# Altium footprint library Componentes Deived Projetos PCB.PcbLib: 87 footprints (part 4 of 6)
Each footprint in its own frame and in the unit in brackets; x right, y up, seen from the top. Pads: shape width x height; smd on the part's side, far side on the other; paste and mask are expansions set on the pad; w line width, h text height; cw(c..) or ccw(c..) is an arc to the next point about the centre after c.
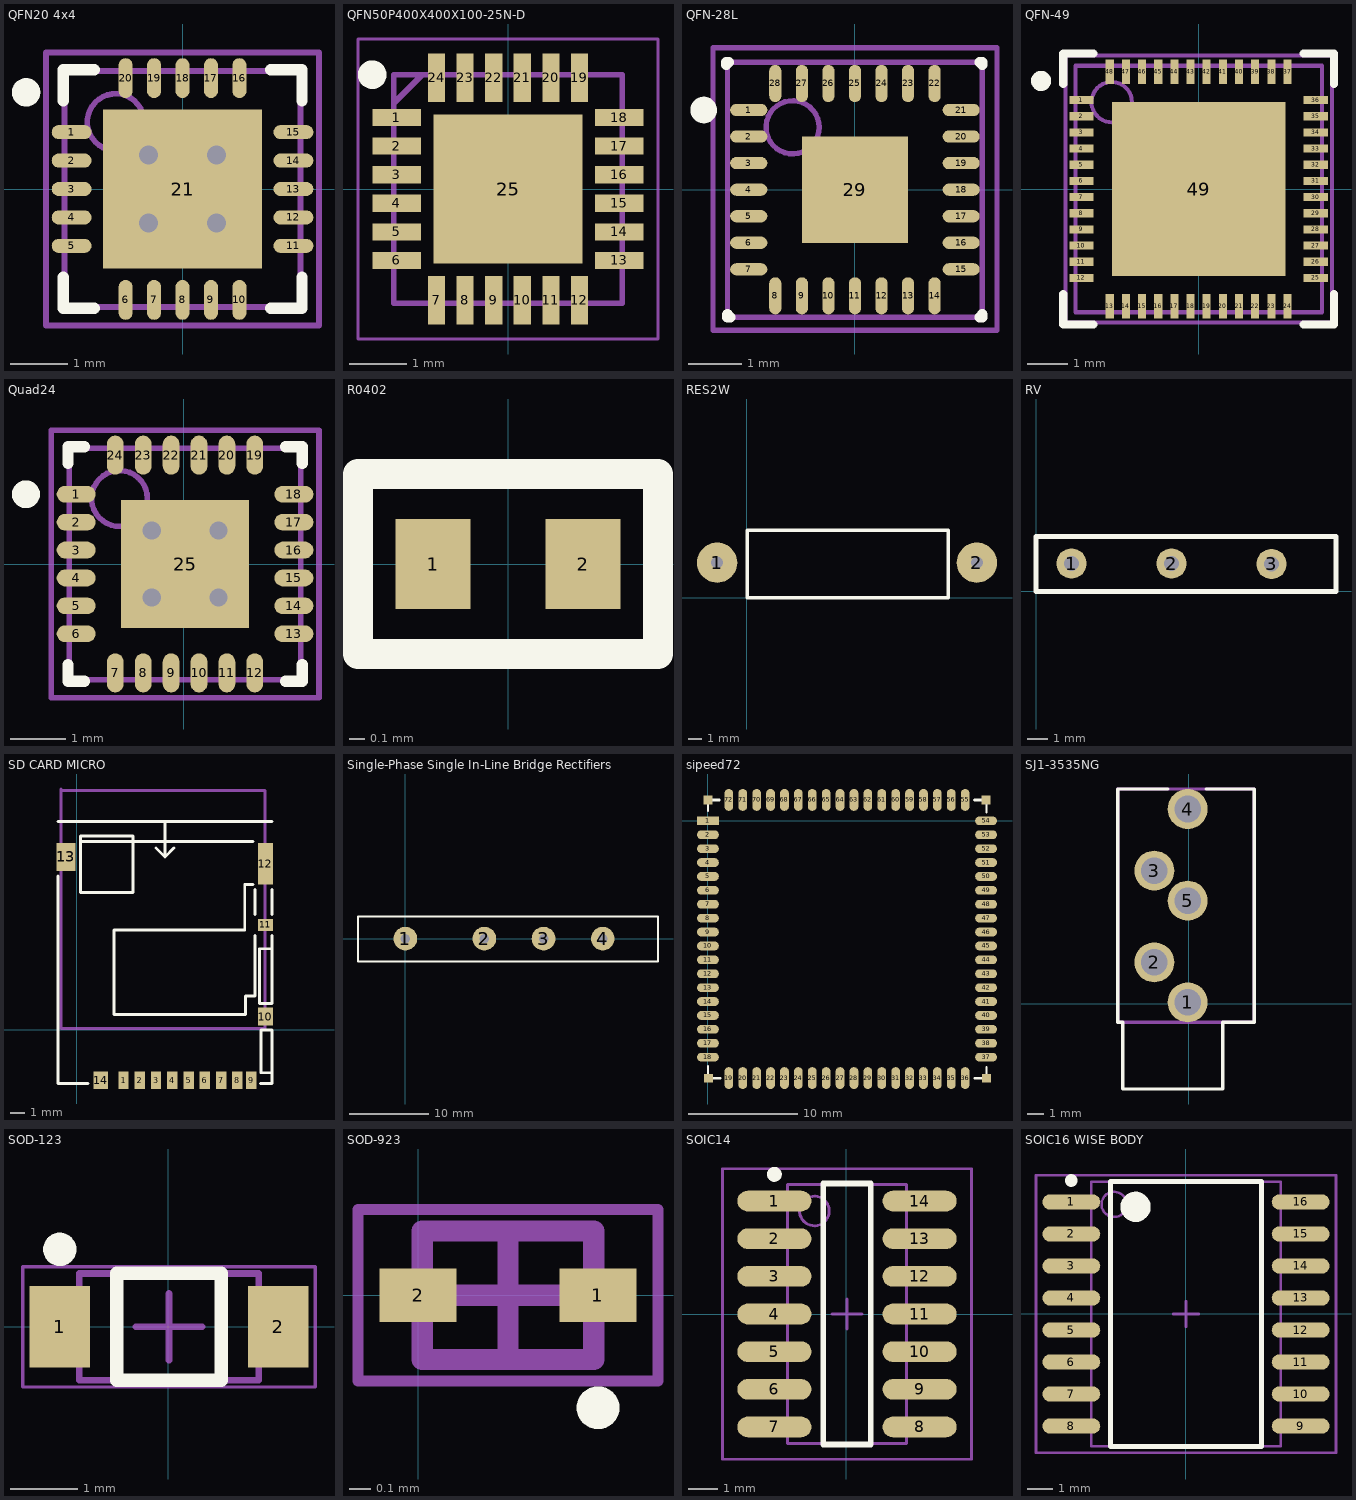
[diagram p3: the footprints below, top view; thin cyan lines are the x and y axes]

## QFN20 4x4 [mm]
pads (21):
  oval 0.7x0.25 smd: 1(-1.95,1) 2(-1.95,0.5) 3(-1.95,0) 4(-1.95,-0.5) 5(-1.95,-1) 11(1.95,-1) 12(1.95,-0.5) 13(1.95,0) 14(1.95,0.5) 15(1.95,1)
  oval 0.25x0.7 smd: 6(-1,-1.95) 7(-0.5,-1.95) 8(0,-1.95) 9(0.5,-1.95) 10(1,-1.95) 16(1,1.95) 17(0.5,1.95) 18(0,1.95) 19(-0.5,1.95) 20(-1,1.95)
  rect 2.8x2.8 smd: 21(0,0)
via 0.6,-0.6 diameter 0.66 hole 0.33
via -0.6,-0.6 diameter 0.66 hole 0.33
via 0.6,0.6 diameter 0.66 hole 0.33
via -0.6,0.6 diameter 0.66 hole 0.33
Top Overlay:
  circle w0.25: c-2.75,1.7 r0.125
  lines w0.2: -2.1,-1.55 -2.1,-2.1 -1.55,-2.1 ; -2.1,1.55 -2.1,2.1 -1.55,2.1 ; 1.55,-2.1 2.1,-2.1 2.1,-1.55 ; 1.55,2.1 2.1,2.1 2.1,1.55
Mechanical 13:
  circle w0.1: c-1.175,1.175 r0.5
  lines w0.1: -2.075,-2.075 2.075,-2.075 2.075,2.075 -2.075,2.075 -2.075,-2.075
Mechanical 15:
  lines w0.1: -0.5,0 0.5,0 ; 0,-0.5 0,0.5 ; -2.4,-2.4 2.4,-2.4 2.4,2.4 -2.4,2.4 -2.4,-2.4
3D body: height 1, standoff 0, extent -2.075,-2.075 2.075,2.075

## QFN50P400X400X100-25N-D [mm]
pads (25):
  rect 0.85x0.3 smd: 1(-1.95,1.25) 2(-1.95,0.75) 3(-1.95,0.25) 4(-1.95,-0.25) 5(-1.95,-0.75) 6(-1.95,-1.25) 13(1.95,-1.25) 14(1.95,-0.75) 15(1.95,-0.25) 16(1.95,0.25) 17(1.95,0.75) 18(1.95,1.25)
  rect 0.3x0.85 smd: 7(-1.25,-1.95) 8(-0.75,-1.95) 9(-0.25,-1.95) 10(0.25,-1.95) 11(0.75,-1.95) 12(1.25,-1.95) 19(1.25,1.95) 20(0.75,1.95) 21(0.25,1.95) 22(-0.25,1.95) 23(-0.75,1.95) 24(-1.25,1.95)
  rect 2.6x2.6 smd: 25(0,0)
Top Overlay:
  circle w0.25: c-2.375,2 r0.125
Mechanical 13:
  lines w0.1: -2,1.5 -1.5,2 ; -2,-2 2,-2 2,2 -2,2 -2,-2
Mechanical 15:
  lines w0.05: -2.625,-2.625 2.625,-2.625 2.625,2.625 -2.625,2.625 -2.625,-2.625
3D body "LAN8742A-CZ.stp": height 1, standoff 0, extent -2.05,-2.05 2.05,2.05

## QFN-28L [mm]
pads (29):
  oval 0.7x0.23 smd: 1(-2,1.5) 2(-2,1) 3(-2,0.5) 4(-2,0) 5(-2,-0.5) 6(-2,-1) 7(-2,-1.5) 15(2,-1.5) 16(2,-1) 17(2,-0.5) 18(2,0) 19(2,0.5) 20(2,1) 21(2,1.5)
  oval 0.23x0.7 smd: 8(-1.5,-2) 9(-1,-2) 10(-0.5,-2) 11(0,-2) 12(0.5,-2) 13(1,-2) 14(1.5,-2) 22(1.5,2) 23(1,2) 24(0.5,2) 25(0,2) 26(-0.5,2) 27(-1,2) 28(-1.5,2)
  rect 2x2 smd: 29(0,0)
Top Overlay:
  circle w0.25: c-2.85,1.5 r0.125
  lines w0.2: -2.425,2.35 -2.425,2.4 -2.375,2.4 ; -2.4,-2.35 -2.4,-2.4 -2.35,-2.4 ; 2.35,-2.4 2.4,-2.4 2.4,-2.35 ; 2.35,2.4 2.4,2.4 2.4,2.35
Mechanical 13:
  circle w0.1: c-1.175,1.175 r0.5
  lines w0.1: -2.4,-2.4 -2.4,2.4 2.4,2.4 2.4,-2.4 -2.4,-2.4
Mechanical 15:
  lines w0.1: -0.5,0 0.5,0 ; 0,-0.5 0,0.5 ; -2.675,-2.65 -2.675,2.675 2.675,2.675 2.675,-2.65 -2.675,-2.65
3D body: height 0.8, standoff 0, extent -2.4,-2.4 2.4,2.4

## QFN-49 [mm]
pads (49):
  rect 0.6x0.2 smd paste-0.125 mask+0.051: 1(-2.9,2.2) 2(-2.9,1.8) 3(-2.9,1.4) 4(-2.9,1) 5(-2.9,0.6) 6(-2.9,0.2) 7(-2.9,-0.2) 8(-2.9,-0.6) 9(-2.9,-1) 10(-2.9,-1.4) 11(-2.9,-1.8) 12(-2.9,-2.2) 25(2.9,-2.2) 26(2.9,-1.8) 27(2.9,-1.4) 28(2.9,-1) 29(2.9,-0.6) 30(2.9,-0.2) 31(2.9,0.2) 32(2.9,0.6) 33(2.9,1) 34(2.9,1.4) 35(2.9,1.8) 36(2.9,2.2)
  rect 0.2x0.6 smd paste-0.125 mask+0.051: 13(-2.2,-2.9) 14(-1.8,-2.9) 15(-1.4,-2.9) 16(-1,-2.9) 17(-0.6,-2.9) 18(-0.2,-2.9) 19(0.2,-2.9) 20(0.6,-2.9) 21(1,-2.9) 22(1.4,-2.9) 23(1.8,-2.9) 24(2.2,-2.9) 37(2.2,2.9) 38(1.8,2.9) 39(1.4,2.9) 40(1,2.9) 41(0.6,2.9) 42(0.2,2.9) 43(-0.2,2.9) 44(-0.6,2.9) 45(-1,2.9) 46(-1.4,2.9) 47(-1.8,2.9) 48(-2.2,2.9)
  rect 4.3x4.3 smd paste-2.3 mask+0.051: 49(0,0)
Top Overlay:
  circle w0.25: c-3.9,2.675 r0.125
  lines w0.2: -3.35,-2.6 -3.35,-3.35 -2.6,-3.35 ; -3.35,2.6 -3.35,3.35 -2.6,3.35 ; 2.6,-3.35 3.35,-3.35 3.35,-2.6 ; 2.6,3.35 3.35,3.35 3.35,2.6
Top Paste:
  rectangle: -3.4,2.1 -2.7,2.3
  rectangle: -3.4,1.7 -2.7,1.9
  rectangle: -3.4,1.3 -2.7,1.5
  rectangle: -3.4,0.9 -2.7,1.1
  rectangle: -3.4,0.5 -2.7,0.7
  rectangle: -3.4,0.1 -2.7,0.3
  rectangle: -3.4,-2.3 -2.7,-2.1
  rectangle: -3.4,-1.9 -2.7,-1.7
  rectangle: -3.4,-1.5 -2.7,-1.3
  rectangle: -3.4,-1.1 -2.7,-0.9
  rectangle: -3.4,-0.7 -2.7,-0.5
  rectangle: -3.4,-0.3 -2.7,-0.1
  region: 0.3,-3.4 0.3,-2.7 0.1,-2.7 0.1,-3.4
  region: 0.7,-3.4 0.7,-2.7 0.5,-2.7 0.5,-3.4
  region: 1.1,-3.4 1.1,-2.7 0.9,-2.7 0.9,-3.4
  region: 1.5,-3.4 1.5,-2.7 1.3,-2.7 1.3,-3.4
  region: 1.9,-3.4 1.9,-2.7 1.7,-2.7 1.7,-3.4
  region: 2.3,-3.4 2.3,-2.7 2.1,-2.7 2.1,-3.4
  region: -0.1,-3.4 -0.1,-2.7 -0.3,-2.7 -0.3,-3.4
  region: -0.5,-3.4 -0.5,-2.7 -0.7,-2.7 -0.7,-3.4
  region: -0.9,-3.4 -0.9,-2.7 -1.1,-2.7 -1.1,-3.4
  region: -1.3,-3.4 -1.3,-2.7 -1.5,-2.7 -1.5,-3.4
  region: -1.7,-3.4 -1.7,-2.7 -1.9,-2.7 -1.9,-3.4
  region: -2.1,-3.4 -2.1,-2.7 -2.3,-2.7 -2.3,-3.4
  region: 3.4,0.3 2.7,0.3 2.7,0.1 3.4,0.1
  region: 3.4,0.7 2.7,0.7 2.7,0.5 3.4,0.5
  region: 3.4,1.1 2.7,1.1 2.7,0.9 3.4,0.9
  region: 3.4,1.5 2.7,1.5 2.7,1.3 3.4,1.3
  region: 3.4,1.9 2.7,1.9 2.7,1.7 3.4,1.7
  region: 3.4,2.3 2.7,2.3 2.7,2.1 3.4,2.1
  region: 3.4,-0.1 2.7,-0.1 2.7,-0.3 3.4,-0.3
  region: 3.4,-0.5 2.7,-0.5 2.7,-0.7 3.4,-0.7
  region: 3.4,-0.9 2.7,-0.9 2.7,-1.1 3.4,-1.1
  region: 3.4,-1.3 2.7,-1.3 2.7,-1.5 3.4,-1.5
  region: 3.4,-1.7 2.7,-1.7 2.7,-1.9 3.4,-1.9
  region: 3.4,-2.1 2.7,-2.1 2.7,-2.3 3.4,-2.3
  region: -0.3,3.4 -0.3,2.7 -0.1,2.7 -0.1,3.4
  region: -0.7,3.4 -0.7,2.7 -0.5,2.7 -0.5,3.4
  region: -1.1,3.4 -1.1,2.7 -0.9,2.7 -0.9,3.4
  region: -1.5,3.4 -1.5,2.7 -1.3,2.7 -1.3,3.4
  region: -1.9,3.4 -1.9,2.7 -1.7,2.7 -1.7,3.4
  region: -2.3,3.4 -2.3,2.7 -2.1,2.7 -2.1,3.4
  region: 0.1,3.4 0.1,2.7 0.3,2.7 0.3,3.4
  region: 0.5,3.4 0.5,2.7 0.7,2.7 0.7,3.4
  region: 0.9,3.4 0.9,2.7 1.1,2.7 1.1,3.4
  region: 1.3,3.4 1.3,2.7 1.5,2.7 1.5,3.4
  region: 1.7,3.4 1.7,2.7 1.9,2.7 1.9,3.4
  region: 2.1,3.4 2.1,2.7 2.3,2.7 2.3,3.4
  rectangle: 0.1,-1.1 1.1,-0.1
  rectangle: 1.3,-2.3 2.3,-1.3
  rectangle: 1.3,-1.1 2.3,-0.1
  rectangle: 0.1,-2.3 1.1,-1.3
  region: -0.1,-0.1 -1.1,-0.1 -1.1,-1.1 -0.1,-1.1
  region: -1.3,-1.3 -2.3,-1.3 -2.3,-2.3 -1.3,-2.3
  region: -1.3,-0.1 -2.3,-0.1 -2.3,-1.1 -1.3,-1.1
  region: -0.1,-1.3 -1.1,-1.3 -1.1,-2.3 -0.1,-2.3
  region: -0.1,1.1 -1.1,1.1 -1.1,0.1 -0.1,0.1
  region: -1.3,2.3 -2.3,2.3 -2.3,1.3 -1.3,1.3
  region: -1.3,1.1 -2.3,1.1 -2.3,0.1 -1.3,0.1
  region: -0.1,2.3 -1.1,2.3 -1.1,1.3 -0.1,1.3
  rectangle: 0.1,1.3 1.1,2.3
  rectangle: 1.3,0.1 2.3,1.1
  rectangle: 1.3,1.3 2.3,2.3
  rectangle: 0.1,0.1 1.1,1.1
Mechanical 13:
  circle w0.1: c-2.15,2.15 r0.5
  lines w0.1: -3.05,-3.05 3.05,-3.05 3.05,3.05 -3.05,3.05 -3.05,-3.05
Mechanical 15:
  lines w0.1: -0.5,0 0.5,0 ; 0,-0.5 0,0.5 ; -3.3,-3.3 3.3,-3.3 3.3,3.3 -3.3,3.3 -3.3,-3.3
3D body: height 0.8, standoff 0, extent -3.049,-3.049 3.049,3.049

## Quad24 [mm]
pads (25):
  oval 0.7x0.3 smd: 1(-1.925,1.25) 2(-1.925,0.75) 3(-1.925,0.25) 4(-1.925,-0.25) 5(-1.925,-0.75) 6(-1.925,-1.25) 13(1.975,-1.25) 14(1.975,-0.75) 15(1.975,-0.25) 16(1.975,0.25) 17(1.975,0.75) 18(1.975,1.25)
  oval 0.3x0.7 smd: 7(-1.225,-1.95) 8(-0.725,-1.95) 9(-0.225,-1.95) 10(0.275,-1.95) 11(0.775,-1.95) 12(1.275,-1.95) 19(1.275,1.95) 20(0.775,1.95) 21(0.275,1.95) 22(-0.225,1.95) 23(-0.725,1.95) 24(-1.225,1.95)
  rect 2.3x2.3 smd: 25(0.025,0)
via 0.625,-0.6 diameter 0.66 hole 0.33
via -0.575,-0.6 diameter 0.66 hole 0.33
via 0.625,0.6 diameter 0.66 hole 0.33
via -0.575,0.6 diameter 0.66 hole 0.33
Top Overlay:
  circle w0.25: c-2.825,1.25 r0.125
  lines w0.2: -2.075,-1.8 -2.075,-2.1 -1.775,-2.1 ; -2.075,1.8 -2.075,2.1 -1.775,2.1 ; 1.825,-2.1 2.125,-2.1 2.125,-1.8 ; 1.825,2.1 2.125,2.1 2.125,1.8
Mechanical 13:
  circle w0.1: c-1.15,1.175 r0.5
  lines w0.1: -2.05,-2.075 2.1,-2.075 2.1,2.075 -2.05,2.075 -2.05,-2.075
Mechanical 15:
  lines w0.1: -0.475,0 0.525,0 ; 0.025,-0.5 0.025,0.5 ; -2.375,-2.4 2.425,-2.4 2.425,2.4 -2.375,2.4 -2.375,-2.4
3D body: height 1, standoff 0, extent -2.05,-2.075 2.1,2.075

## R0402 [mm]
pads (2):
  rect 0.5x0.6 smd: 1(-0.5,0) 2(0.5,0)
Top Overlay:
  lines w0.2: -1,-0.6 -1,0.6 1,0.6 1,-0.6 -1,-0.6
Mechanical 29:
  lines w0.15: -1,-0.6 1,-0.6 1,0.6 -1,0.6 -1,-0.6
  text ".Designator" at 0.5,0.2 h0.4
3D body "R0402.step": height 0.4, standoff 0, extent -0.5,-0.25 0.5,0.25

## RES2W [mm]
pads (2):
  round 3 hole 0.9: 1(-2.225,2.6) 2(17.125,2.6)
Top Overlay:
  lines w0.254: 0.025,0 0.025,5 15,5 15,0 0.025,0

## RV [mil]
pads (3):
  round 60 hole 30: 1(69.88,55.12) 2(266.73,55.12) 3(463.58,54.13)
Top Overlay:
  lines w10: 0,0 590.55,0 590.55,108.27 0,108.27 0,0

## SD CARD MICRO [mm]
pads (14):
  rect 0.7x1.2 smd: 1(3.175,-3.4) 2(4.275,-3.4) 3(5.375,-3.4) 4(6.475,-3.4) 5(7.575,-3.4) 6(8.675,-3.4) 7(9.775,-3.4)
  rect 0.7x1.2 smd mask+0.07: 8(10.875,-3.4) 9(11.825,-3.4)
  rect 1x1.2 smd: 10(12.775,0.9) 14(1.625,-3.4)
  rect 1x0.8 smd: 11(12.775,7.1)
  rect 1x2.8 smd: 12(12.775,11.25)
  rect 1.3x1.9 smd: 13(-0.725,11.7)
Top Overlay:
  lines w0.2: -1.27,10.4 -1.27,-3.631 0.762,-3.631 ; -1.27,14.095 13.208,14.095 ; 0.254,12.752 11.938,12.752 ; 5.375,12.3 5.975,11.7 ; 5.975,14.05 5.975,11.7 ; 6.575,12.3 5.975,11.7 ; 11.93,9.845 11.375,9.845 11.375,6.76 2.54,6.76 2.54,1.045 11.43,1.045 11.43,2.3 12.075,2.3 12.075,6.4 ; 12.075,7.8 12.075,9.5 ; 12.446,-3.631 13.208,-3.631 13.208,0 ; 13.179,0 12.475,0 12.475,-2.9 13.208,-2.9 ; 13.208,5.49 12.385,5.49 12.375,5.49 12.375,1.8 13.208,1.8 13.208,6.4 ; 13.208,7.8 13.208,9.5 ; 0.254,9.3 3.81,9.3 3.81,13.11 0.254,13.11 0.254,9.3
Mechanical 30:
  lines w0.2: -1.05,0.1 12.75,0.1 12.75,16.2 -0.95,16.2 -1.05,16.3 -1.05,0.1
  text ".Designator" at 3.85,8.7 h1.52
3D body "DM3AT-SF-PEJM5.stp": height 1.68, standoff 0, extent -1.05,-3.45 12.8,12.7

## Single-Phase Single In-Line Bridge Rectifiers [mm]
pads (4):
  round 3 hole 1.2: 1(0,0) 2(10,0) 3(17.5,0) 4(25,0)
Top Overlay:
  lines w0.254: -6,-2.9 32,-2.9 32,2.8 -6,2.8 -6,-2.9

## sipeed72 [mm]
pads (76):
  rect 2x0.8 smd: 1(0,0)
  oval 2x0.8 smd: 2(0,-1.27) 3(0,-2.54) 4(0,-3.81) 5(0,-5.08) 6(0,-6.35) 7(0,-7.62) 8(0,-8.89) 9(0,-10.16) 10(0,-11.43) 11(0,-12.7) 12(0,-13.97) 13(0,-15.24) 14(0,-16.51) 15(0,-17.78) 16(0,-19.05) 17(0,-20.32) 18(0,-21.59) 37(25.41,-21.59) 38(25.41,-20.32) 39(25.41,-19.05) 40(25.41,-17.78) 41(25.41,-16.51) 42(25.41,-15.24) 43(25.41,-13.97) 44(25.41,-12.7) 45(25.41,-11.43) 46(25.41,-10.16) 47(25.41,-8.89) 48(25.41,-7.62) 49(25.41,-6.35) 50(25.41,-5.08) 51(25.41,-3.81) 52(25.41,-2.54) 53(25.41,-1.27) 54(25.41,0)
  oval 0.8x2 smd: 19(1.91,-23.5) 20(3.18,-23.5) 21(4.45,-23.5) 22(5.72,-23.5) 23(6.99,-23.5) 24(8.26,-23.5) 25(9.53,-23.5) 26(10.8,-23.5) 27(12.07,-23.5) 28(13.34,-23.5) 29(14.61,-23.5) 30(15.88,-23.5) 31(17.15,-23.5) 32(18.42,-23.5) 33(19.69,-23.5) 34(20.96,-23.5) 35(22.23,-23.5) 36(23.5,-23.5) 55(23.5,1.91) 56(22.23,1.91) 57(20.96,1.91) 58(19.69,1.91) 59(18.42,1.91) 60(17.15,1.91) 61(15.88,1.91) 62(14.61,1.91) 63(13.34,1.91) 64(12.07,1.91) 65(10.8,1.91) 66(9.53,1.91) 67(8.26,1.91) 68(6.99,1.91) 69(5.72,1.91) 70(4.45,1.91) 71(3.18,1.91) 72(1.91,1.91)
  rect 0.8x0.8 smd: 73(0.05,-23.525) 74(25.45,-23.525) 75(25.4,1.91) 76(0,1.91)
Top Overlay:
  lines w0.2: 0,-23.525 0,-22.39 ; 0,0.9 0,1.91 ; 25.45,-23.525 25.45,-22.515 ; 25.45,0.775 25.45,1.91
  lines w0.254: 0,1.91 1.04,1.91 ; 0.05,-23.525 1.1,-23.525 ; 24.35,1.91 25.4,1.91 ; 24.41,-23.525 25.45,-23.525

## SJ1-3535NG [mm]
pads (5):
  round 2.4 hole 1.6: 1(-0.075,0.1) 2(-2.075,2.5) 3(-2.075,8) 4(-0.075,11.7) 5(-0.075,6.2)
Top Overlay:
  lines w0.2: -1.275,12.9 -4.275,12.9 -4.275,-1.1 -3.975,-1.1 -3.975,-5.1 2.025,-5.1 2.025,-1.1 3.925,-1.1 3.925,12.9 1.025,12.9
Top Solder:
  region: -1.725,8.75 0.575,6.45 -0.425,5.45 -2.725,7.75
Mechanical 1:
  lines w0.2: -4.275,12.9 -4.275,12.9
Mechanical 29:
  lines w0.2: -4.275,-1.1 3.925,-1.1 3.925,12.9 -4.275,12.9 -4.275,-1.1
  text ".Designator" at -2.075,5.6 h1.2
3D body "SJ1-3535NG-PI.step": height 12.3, standoff -3.3, extent -4.275,-5.15 3.925,12.9

## SOD-123 [mm]
pads (2):
  rect 0.91x1.22 smd: 1(-1.625,0) 2(1.645,0)
Top Overlay:
  circle w0.25: c-1.625,1.16 r0.125
  lines w0.2: -0.77,-0.8 0.79,-0.8 0.79,0.8 -0.77,0.8 -0.77,-0.8
Mechanical 13:
  lines w0.1: -1.335,-0.8 1.355,-0.8 1.355,0.8 -1.335,0.8 -1.335,-0.8
Mechanical 15:
  lines w0.05: -2.18,-0.9 2.2,-0.9 2.2,0.9 -2.18,0.9 -2.18,-0.9
  lines w0.1: -0.49,0 0.51,0 ; 0.01,-0.5 0.01,0.5
3D body: height 1.35, standoff 0, extent -1.335,-0.8 1.355,0.8

## SOD-923 [mm]
pads (2):
  rect 0.36x0.25 smd: 1(0.84,0) 2(0,0)
Top Overlay:
  circle w0.1: c0.84,-0.525 r0.05
Mechanical 13:
  lines w0.1: 0.02,-0.3 0.02,0.3 0.82,0.3 0.82,-0.3 0.02,-0.3
Mechanical 15:
  lines w0.05: -0.28,-0.4 -0.28,0.4 1.12,0.4 1.12,-0.4 -0.28,-0.4
  lines w0.1: 0.17,0 0.67,0 ; 0.42,-0.25 0.42,0.25
3D body: height 0.43, standoff 0, extent 0.02,-0.3 0.82,0.3

## SOIC14 [mm]
pads (14):
  oval 2.5x0.7 smd: 1(-2.425,3.81) 2(-2.425,2.54) 3(-2.425,1.27) 4(-2.425,0) 5(-2.425,-1.27) 6(-2.425,-2.54) 7(-2.425,-3.81) 8(2.475,-3.81) 9(2.475,-2.54) 10(2.475,-1.27) 11(2.475,0) 12(2.475,1.27) 13(2.475,2.54) 14(2.475,3.81)
Top Overlay:
  circle w0.25: c-2.425,4.71 r0.125
  lines w0.2: -0.775,-4.4 0.825,-4.4 0.825,4.4 -0.775,4.4 -0.775,-4.4
Mechanical 13:
  circle w0.1: c-1.075,3.475 r0.5
  lines w0.1: -1.975,-4.375 2.025,-4.375 2.025,4.375 -1.975,4.375 -1.975,-4.375
Mechanical 15:
  lines w0.1: -0.475,0 0.525,0 ; 0.025,-0.5 0.025,0.5 ; -4.175,-4.9 4.225,-4.9 4.225,4.9 -4.175,4.9 -4.175,-4.9
3D body: height 1.75, standoff 0, extent -1.975,-4.375 2.025,4.375

## SOIC16 WISE BODY [mm]
pads (16):
  oval 2.3x0.6 smd: 1(-4.535,4.44) 2(-4.535,3.17) 3(-4.535,1.9) 4(-4.535,0.63) 5(-4.535,-0.64) 6(-4.535,-1.91) 7(-4.535,-3.18) 8(-4.535,-4.45) 9(4.565,-4.45) 10(4.565,-3.18) 11(4.565,-1.91) 12(4.565,-0.64) 13(4.565,0.63) 14(4.565,1.9) 15(4.565,3.17) 16(4.565,4.44)
Top Overlay:
  circle w0.25: c-4.535,5.29 r0.125
  circle w0.6: c-1.985,4.245 r0.3
  lines w0.2: -2.985,-5.255 -2.985,5.245 3.015,5.245 3.015,-5.255 -2.985,-5.255
Mechanical 13:
  circle w0.1: c-2.835,4.345 r0.5
  lines w0.1: -3.735,-5.255 -3.735,5.245 3.765,5.245 3.765,-5.255 -3.735,-5.255
Mechanical 15:
  lines w0.1: -0.485,-0.005 0.515,-0.005 ; 0.015,-0.505 0.015,0.495 ; -5.935,-5.505 -5.935,5.495 5.965,5.495 5.965,-5.505 -5.935,-5.505
3D body: height 2.65, standoff 0, extent -3.735,-5.255 3.765,5.245